# EAGLE library part SWD_SEEGER (library general)
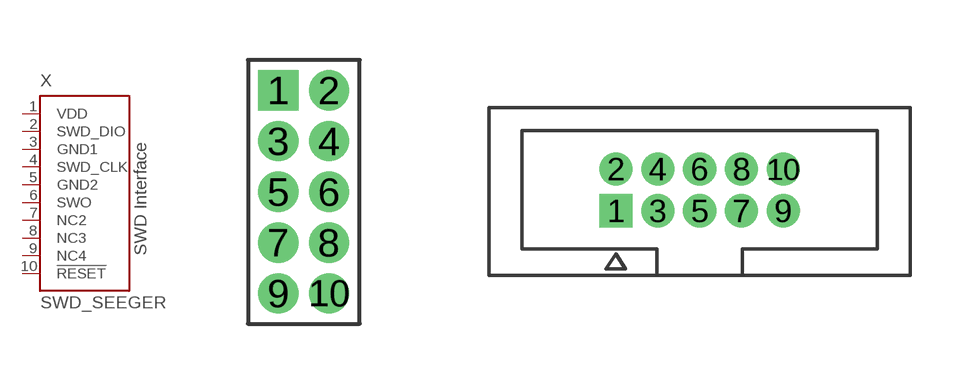
[diagram p3: symbol with the pads of HEADER_10_50MIL; footprints HEADER_10_50MIL, SHF-105-01-L-D-TH]

Designator prefix X

## SWD_SEEGER_50MIL  [HEADER_10_50MIL]
1  VDD
2  SWD_DIO
3  GND1
4  SWD_CLK
5  GND2
6  SWO
7  NC2
8  NC3
9  NC4
10  !RESET

## SWD_SEEGER_SHF-105  [SHF-105-01-L-D-TH]
Pads as for HEADER_10_50MIL

## Footprint HEADER_10_50MIL (pad centres in mm)
drill 0.5 pad 0.9 square: 1 0,0
drill 0.5 pad 0.9: 2 1.27,0; 3 0,-1.27; 4 1.27,-1.27; 5 0,-2.54; 6 1.27,-2.54; 7 0,-3.81; 8 1.27,-3.81; 9 0,-5.08; 10 1.27,-5.08

## Footprint SHF-105-01-L-D-TH (pad centres in mm)
drill 0.5 pad 0.9 square: 1 -2.54,-0.635
drill 0.5 pad 0.9: 2 -2.54,0.635; 3 -1.27,-0.635; 4 -1.27,0.635; 5 0,-0.635; 6 0,0.635; 7 1.27,-0.635; 8 1.27,0.635; 9 2.54,-0.635; 10 2.54,0.635